# EAGLE library part LT8410IDC#TRMPBF (library ruark2)
Boost Switching Regulator IC Positive Adjustable 1.235V 1 Output 20mA (Switch) 8-WFDFN Exposed Pad
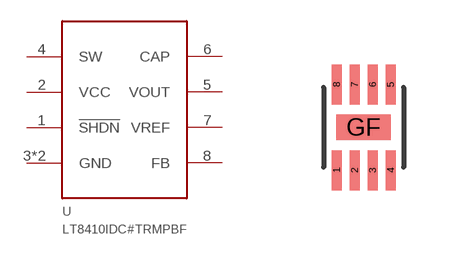
[diagram p149: symbol with the pads of 8DFN; footprint 8DFN]

Designator prefix U

## LT8410IDC#TRMPBF (PARTNO: LT8410IDC#TRMPBFCT-ND)  [8DFN]
1  !SHDN
2  VCC
3  GND
4  SW
5  VOUT
6  CAP
7  VREF
8  FB
GF  GND

## Footprint 8DFN (pad centres in mm)
smd 0.25 x 1: 1 -0.675,-1.075; 2 -0.225,-1.075; 3 0.225,-1.075; 4 0.675,-1.075; 5 0.675,1.075; 6 0.225,1.075; 7 -0.225,1.075; 8 -0.675,1.075
smd 1.37 x 0.64: GF 0,0